# Altium footprint library IMR_LIB_PCB.PcbLib: 119 footprints (part 7 of 8)
Each footprint in its own frame and in the unit in brackets; x right, y up, seen from the top. Pads: shape width x height; smd on the part's side, far side on the other; paste and mask are expansions set on the pad; w line width, h text height; cw(c..) or ccw(c..) is an arc to the next point about the centre after c.
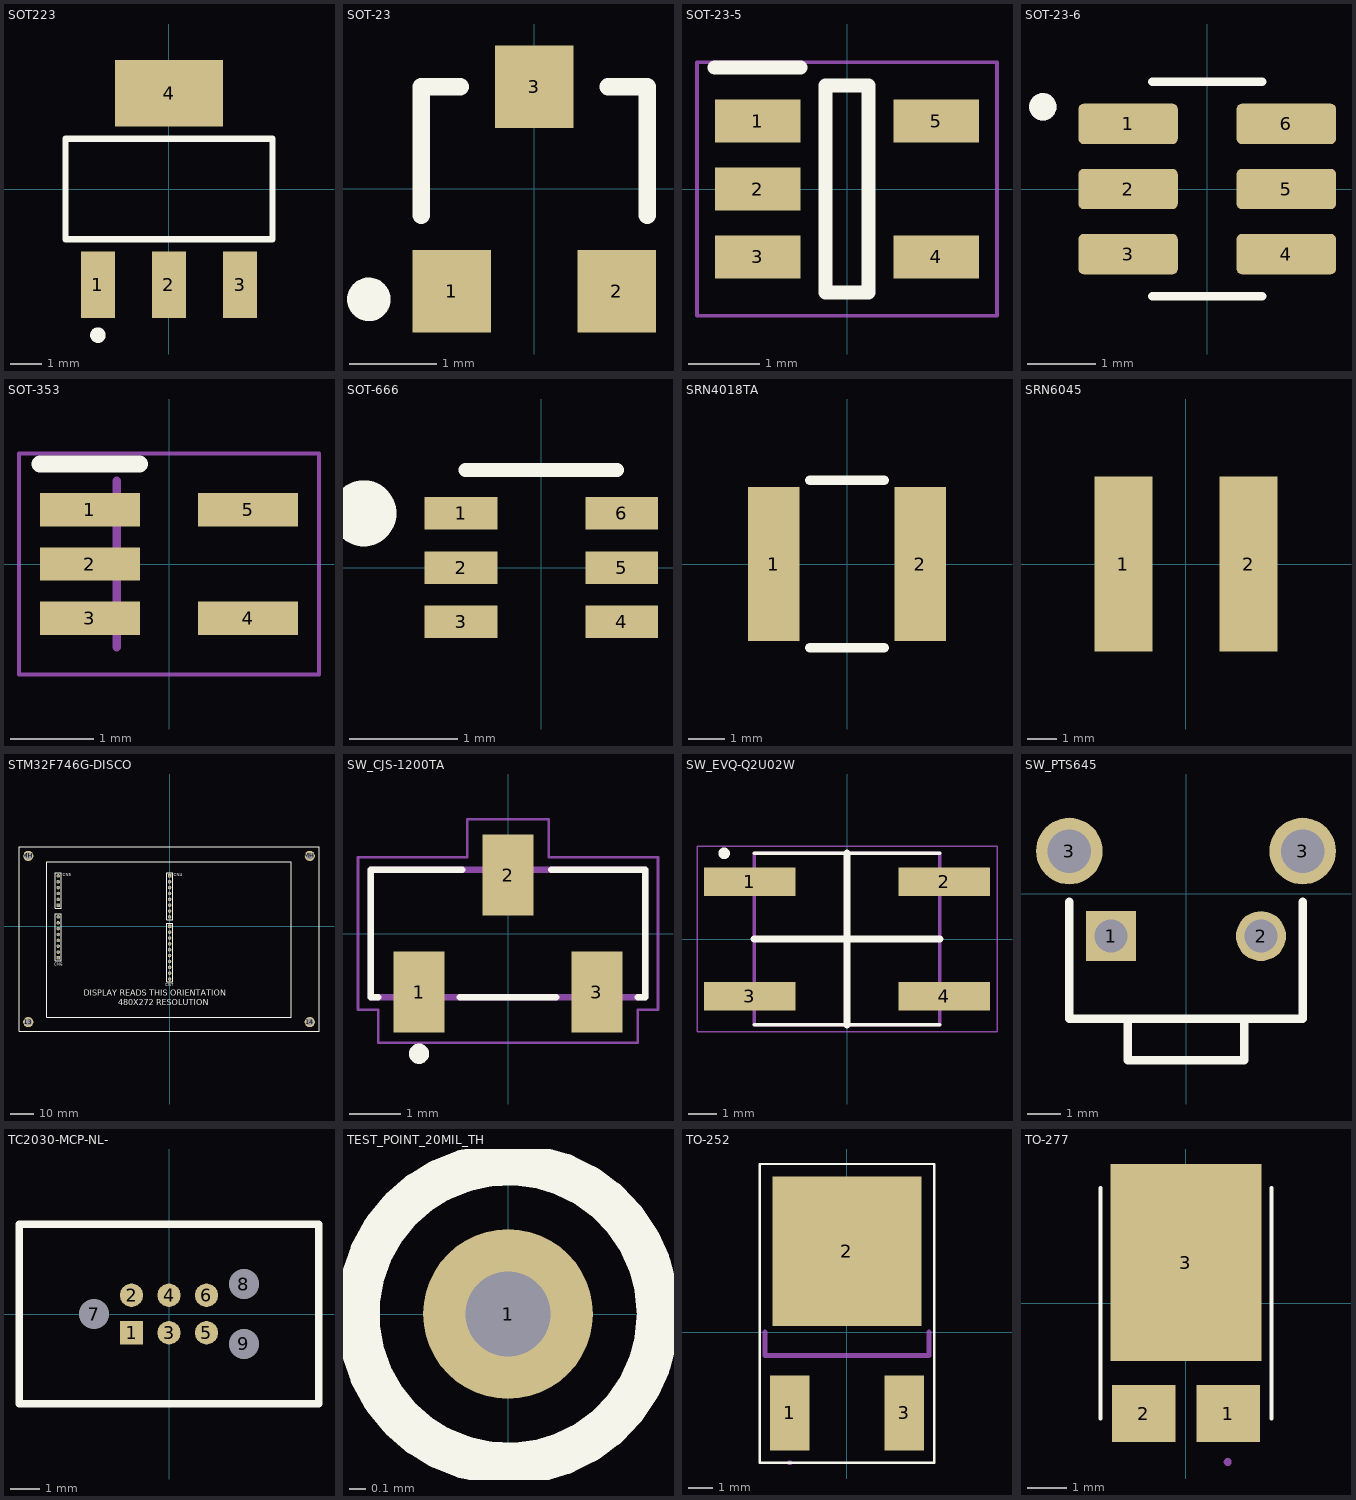
[diagram p6: the footprints below, top view; thin cyan lines are the x and y axes]

## SOT223 [mm] "SOT223"
height 1.8
pads (4):
  rect 1.1x2.15 smd: 1(-2.3,-3.1) 2(0,-3.1) 3(2.3,-3.1)
  rect 3.5x2.15 smd: 4(0,3.1)
Top Overlay:
  circle w0.25: c-2.3,-4.725 r0.125
  lines w0.2: -3.35,-1.625 3.35,-1.625 3.35,1.625 -3.35,1.625 -3.35,-1.625
3D body: height 1.6, standoff -0.08, extent -3.25,-3.48 3.25,3.48

## SOT-23 [mm] "SOT23-3"
height 1.1
pads (3):
  rect 0.9x0.95 smd: 1(-0.95,-1.175) 2(0.95,-1.175) 3(0,1.175)
Top Overlay:
  circle w0.25: c-1.903,-1.27 r0.125
  lines w0.2: -1.3,-0.3 -1.3,1.175 -0.85,1.175 ; 0.85,1.175 1.3,1.175 1.3,-0.3
3D body: height 1.05, standoff -0.05, extent -1.5,-1.25 1.5,1.25

## SOT-23-5 [mm] "AKA SC-74A, SOT-753"
height 2.5
pads (5):
  rect 1.2x0.6 smd: 1(-1.25,0.95) 2(-1.25,0) 3(-1.25,-0.95) 4(1.25,-0.95) 5(1.25,0.95)
Top Overlay:
  lines w0.2: -1.85,1.7 -0.65,1.7 ; -0.3,-1.45 0.3,-1.45 0.3,1.45 -0.3,1.45 -0.3,-1.45
Test Points Bottom:
  lines w0.05: -2.1,-1.775 2.1,-1.775 2.1,1.775 -2.1,1.775 -2.1,-1.775
3D body: height 1.2, standoff 0, extent -1.4,-1.45 1.4,1.45

## SOT-23-6 [mm] "SOT-23-6 AKA TSOT-23-6"
height 3
pads (6):
  rrect25% 1.45x0.59 smd: 1(-1.155,0.95) 2(-1.155,0) 3(-1.155,-0.95) 4(1.155,-0.95) 5(1.155,0) 6(1.155,0.95)
Top Overlay:
  circle w0.2: c-2.4,1.2 r0.1
  lines w0.127: -0.8,-1.565 0.8,-1.565 ; -0.8,1.565 0.8,1.565
3D Top:
  circle w0.2: c-2.4,1.2 r0.1
3D body: height 1.1, standoff 0, extent -1.4,-1.45 1.4,1.45

## SOT-353 [mm] "AKA SC-70-5, 5-TSSOP"
height 2.5
pads (5):
  rect 1.2x0.4 smd: 1(-0.95,0.65) 2(-0.95,0) 3(-0.95,-0.65) 4(0.95,-0.65) 5(0.95,0.65)
Top Overlay:
  lines w0.2: -1.55,1.2 -0.35,1.2
Courtyard Top:
  lines w0.1: -0.625,-1 -0.625,1
Test Points Bottom:
  lines w0.05: -1.8,-1.325 1.8,-1.325 1.8,1.325 -1.8,1.325 -1.8,-1.325
3D body: height 1, standoff 0, extent -1.05,-1 1.05,1

## SOT-666 [mm] "SOT-563 AND SOT-666 COMPATIBLE"
height 0.6
pads (6):
  rect 0.67x0.3 smd: 1(-0.74,0.5) 2(-0.74,0) 3(-0.74,-0.5) 4(0.74,-0.5) 5(0.74,0) 6(0.74,0.5)
Top Overlay:
  circle w0.508: c-1.64,0.5 r0.05
  lines w0.127: -0.7,0.9 0.7,0.9
3D body: height 0.6, standoff 0, extent -0.8,-0.795 0.8,0.795

## SRN4018TA [mm] "BOURNS SERIES SRN4018TA-6R8M"
height 1.8
pads (2):
  rect 1.4x4.2 smd: 1(-2,0) 2(2,0)
Top Overlay:
  lines w0.254: -1.016,-2.286 1.016,-2.286 ; -1.016,2.286 1.016,2.286
3D body: height 1.82, standoff 0, extent -2,-2 2,2

## SRN6045 [mm] "BOURNS SERIES SRN6045"
height 4.5
pads (2):
  rect 2x6 smd: 1(-2.15,0) 2(2.15,0)
3D body: height 4.5, standoff 0, extent -3.15,-3 3.15,3

## STM32F746G-DISCO [mil] "STM32F746G-DISCO MODULE"
height 866.14
pads (36):
  round 175 hole 125: 13(-2411.81,-1634.09) 14(2391.34,-1634.09) MH(-2411.81,1200.55) MH(2391.34,1200.55)
  rect 60x60 hole 35: CN41(0,860) CN51(-1900,360) CN61(-1900,-540) CN71(0,0)
  round 60 hole 35: CN42(0,760) CN43(0,660) CN44(0,560) CN45(0,460) CN46(0,360) CN47(0,260) CN48(0,160) CN52(-1900,460) CN53(-1900,560) CN54(-1900,660) CN55(-1900,760) CN56(-1900,860) CN62(-1900,-440) CN63(-1900,-340) CN64(-1900,-240) CN65(-1900,-140) CN66(-1900,-40) CN67(-1900,60) CN68(-1900,160) CN72(0,-100) CN73(0,-200) CN74(0,-300) CN75(0,-400) CN76(0,-500) CN77(0,-600) CN78(0,-700) CN79(0,-800) CN710(0,-900)
Top Overlay:
  lines w10: -2569.29,-1791.57 2548.82,-1791.57 2548.82,1358.03 -2569.29,1358.03 -2569.29,-1791.57 ; -2096.85,-1555.35 2076.38,-1555.35 2076.38,1102.13 -2096.85,1102.13 -2096.85,-1555.35 ; -1950,-590 -1950,210 -1850,210 -1850,-590 -1950,-590 ; -1950,310 -1950,910 -1850,910 -1850,310 -1950,310 ; -50,-950 -50,50 50,50 50,-950 -50,-950 ; -50,110 -50,910 50,910 50,110 -50,110
  text "CN7" at -70.87,-1024.45 h50
  text "CN4" at 75,850 h50
  text "CN6" at -1970.87,-674.45 h50
  text "CN5" at -1825,850 h50
  text "480X272 RESOLUTION" at -876.38,-1344.72 h100
  text "DISPLAY READS THIS ORIENTATION" at -1466.93,-1187.24 h100
3D body: height 590.55, standoff 0, extent 2253.55,1062.89 2529.14,1338.23
3D body: height 590.55, standoff 0, extent 2253.55,-1771.76 2529.14,-1496.42
3D body: height 590.55, standoff 0, extent -2549.6,-1771.76 -2274.01,-1496.42
3D body: height 590.55, standoff 0, extent -2549.6,1062.89 -2274.01,1338.23
3D body: height 669.29, standoff 590.55, extent -2570,-1789.61 2548.11,1360
3D body: height 866.14, standoff 669.29, extent -2096.85,-1555.35 2076.38,1102.13
3D body: height 590.55, standoff 0, extent -1950,310 -1850,910
3D body: height 590.55, standoff 0, extent -1950,-590 -1850,210
3D body: height 590.55, standoff 0, extent -50,110 50,910
3D body: height 590.55, standoff 0, extent -50,-950 50,50
3D body: height 870.08, standoff 866.14, extent -2071.85,-1522.87 2053.15,1077.13

## SW_CJS-1200TA [mm] "SWITCH CJS-1200TA"
height 2.5
pads (3):
  rect 1x1.6 smd: 1(-1.75,-1.15) 2(0,1.15) 3(1.75,-1.15)
Top Overlay:
  circle w0.2: c-1.75,-2.365 r0.1
  lines w0.127: -2.55,-1.25 -2.7,-1.25 -2.7,1.25 -0.9,1.25 ; -0.95,-1.25 0.95,-1.25 ; 0.85,1.25 2.7,1.25 2.7,-1.25 2.55,-1.25
3D Top:
  lines w0.127: -2.7,-1.25 2.7,-1.25 2.7,1.25 -2.7,1.25 -2.7,-1.25
Courtyard Top:
  lines w0.05: -2.95,-1.5 -2.55,-1.5 -2.55,-2.15 2.55,-2.15 2.55,-1.5 2.95,-1.5 2.95,1.5 0.8,1.5 0.8,2.25 -0.8,2.25 -0.8,1.5 -2.95,1.5 -2.95,-1.5
3D body: height 2.6, standoff 0, extent -2.7,-1.4 2.7,1.4

## SW_EVQ-Q2U02W [mm] "SWITCH"
height 2.25
pads (4):
  rect 3.2x1 smd: 1(-3.4,2) 2(3.4,2) 3(-3.4,-2) 4(3.4,-2)
Top Overlay:
  circle w0.2: c-4.3,3 r0.1
  lines w0.127: -3.25,-3 3.25,-3 ; -3.25,3 3.25,3
  lines w0.254: -3.25,0 3.25,0 ; 0,-3 0,3
3D Top:
  lines w0.127: -3.25,-3 3.25,-3 3.25,3 -3.25,3 -3.25,-3
Courtyard Top:
  lines w0.05: -5.25,-3.25 5.25,-3.25 5.25,3.25 -5.25,3.25 -5.25,-3.25
3D body: height 2.3, standoff 1.8, extent -1.9,-1.897 1.9,1.897
3D body: height 1.8, standoff 0, extent -3.25,-3 3.25,3

## SW_PTS645 [mm] "SWITCH C&K PTS645 SERIES"
height 6.2
pads (4):
  rect 1.5x1.5 hole 1: 1(-2.25,-1.275)
  round 1.5 hole 1: 2(2.25,-1.275)
  round 2 hole 1.3: 3(-3.5,1.275) 3(3.5,1.275)
Top Overlay:
  lines w0.254: -3.5,-0.25 -3.5,-3.75 3.5,-3.75 3.5,-0.25 ; -1.75,-3.75 -1.75,-5 1.75,-5 1.75,-3.75
3D body: height 7.1, standoff -3.5, extent -4.086,-5.095 4.086,2.7

## TC2030-MCP-NL- [mm] "CABLE TAG-CONNECT IN-CIRCUIT"
pads (9):
  rect 0.787x0.787 smd: 1(-1.27,-0.635)
  round 0.787 smd: 2(-1.27,0.635) 3(0,-0.635) 4(0,0.635) 5(1.27,-0.635) 6(1.27,0.635)
  oval 1x0.991 hole 1 unplated: 7(-2.54,0)
  round 1 hole 1 unplated: 8(2.54,1.016) 9(2.54,-1.016)
Top Overlay:
  lines w0.254: -5.08,-3.048 -5.08,3.048 5.08,3.048 5.08,-3.048 -5.08,-3.048

## TEST_POINT_20MIL_TH [mil] "HOLE_40MIL PAD 20MIL HOLE"
pads (1):
  round 40 hole 20: 1(0,0)
Top Overlay:
  circle w10: c0,0 r35.36

## TO-252 [mm] "TO-252, TO-252-3, DPAK"
height 3
pads (3):
  rect 1.6x3 smd: 1(-2.3,-3.25) 3(2.3,-3.25)
  rect 6x6 smd: 2(0,3.25)
Top Overlay:
  lines w0.1: -3.5,-5.25 3.5,-5.25 3.5,6.75 -3.5,6.75 -3.5,-5.25
Mechanical 22:
  lines w0.1: -2.3,-5.3 cw(c-2.3,-5.25) -2.3,-5.2 cw(c-2.3,-5.25) -2.3,-5.3
  lines w0.2: -3.3,0 -3.3,-0.95 3.3,-0.95 3.3,0
3D body: height 2.48, standoff -0.02, extent -3.3,-4.3 3.3,5.6

## TO-277 [mm] "TO-277 AKA 3-PowerDFN"
height 1
pads (3):
  rect 1.6x1.44 smd: 1(1.065,-2.78) 2(-1.065,-2.78)
  rect 3.8x4.96 smd: 3(0,1.02)
Top Overlay:
  lines w0.1: -2.15,-2.9 -2.15,2.9 ; 2.15,-2.9 2.15,2.9
Mechanical 22:
  lines w0.1: 1,-4 ccw(c1.05,-4) 1.1,-4 ccw(c1.05,-4) 1,-4
3D body: height 0.82, standoff 0.02, extent -2.25,-3.05 2.2,3.45